# EAGLE library part OPA2684 (library IC)
Texas Instruments OPA2684 Low-Power, Dual Current-Feedback Operational Amplifier
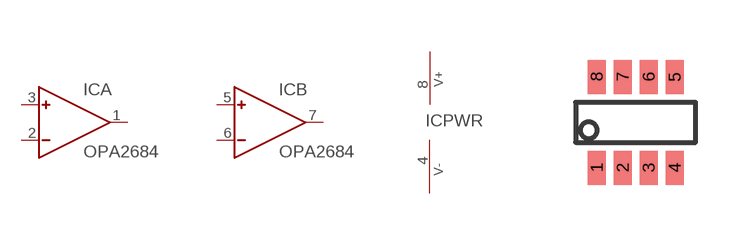
[diagram p127: symbol with the pads of SOT23-8; footprint SOT23-8]

Designator prefix IC; gates A=OPAMP B=OPAMP PWR=PWR_V+_V-

## OPA2684  [SOT23-8]
1  A:OUT  out
2  A:IN-  in
3  A:IN+  in
4  PWR:V-  pwr
5  B:IN+  in
6  B:IN-  in
7  B:OUT  out
8  PWR:V+  pwr

## Footprint SOT23-8 (pad centres in mm)
smd 0.45 x 0.85: 1 -0.975,-1.137; 2 -0.325,-1.137; 3 0.325,-1.137; 4 0.975,-1.137; 5 0.975,1.137; 6 0.325,1.137; 7 -0.325,1.137; 8 -0.975,1.137